# Altium footprint library LTM4613.PcbLib: 18 footprints (part 1 of 2)
Each footprint in its own frame and in the unit in brackets; x right, y up, seen from the top. Pads: shape width x height; smd on the part's side, far side on the other; paste and mask are expansions set on the pad; w line width, h text height; cw(c..) or ccw(c..) is an arc to the next point about the centre after c.
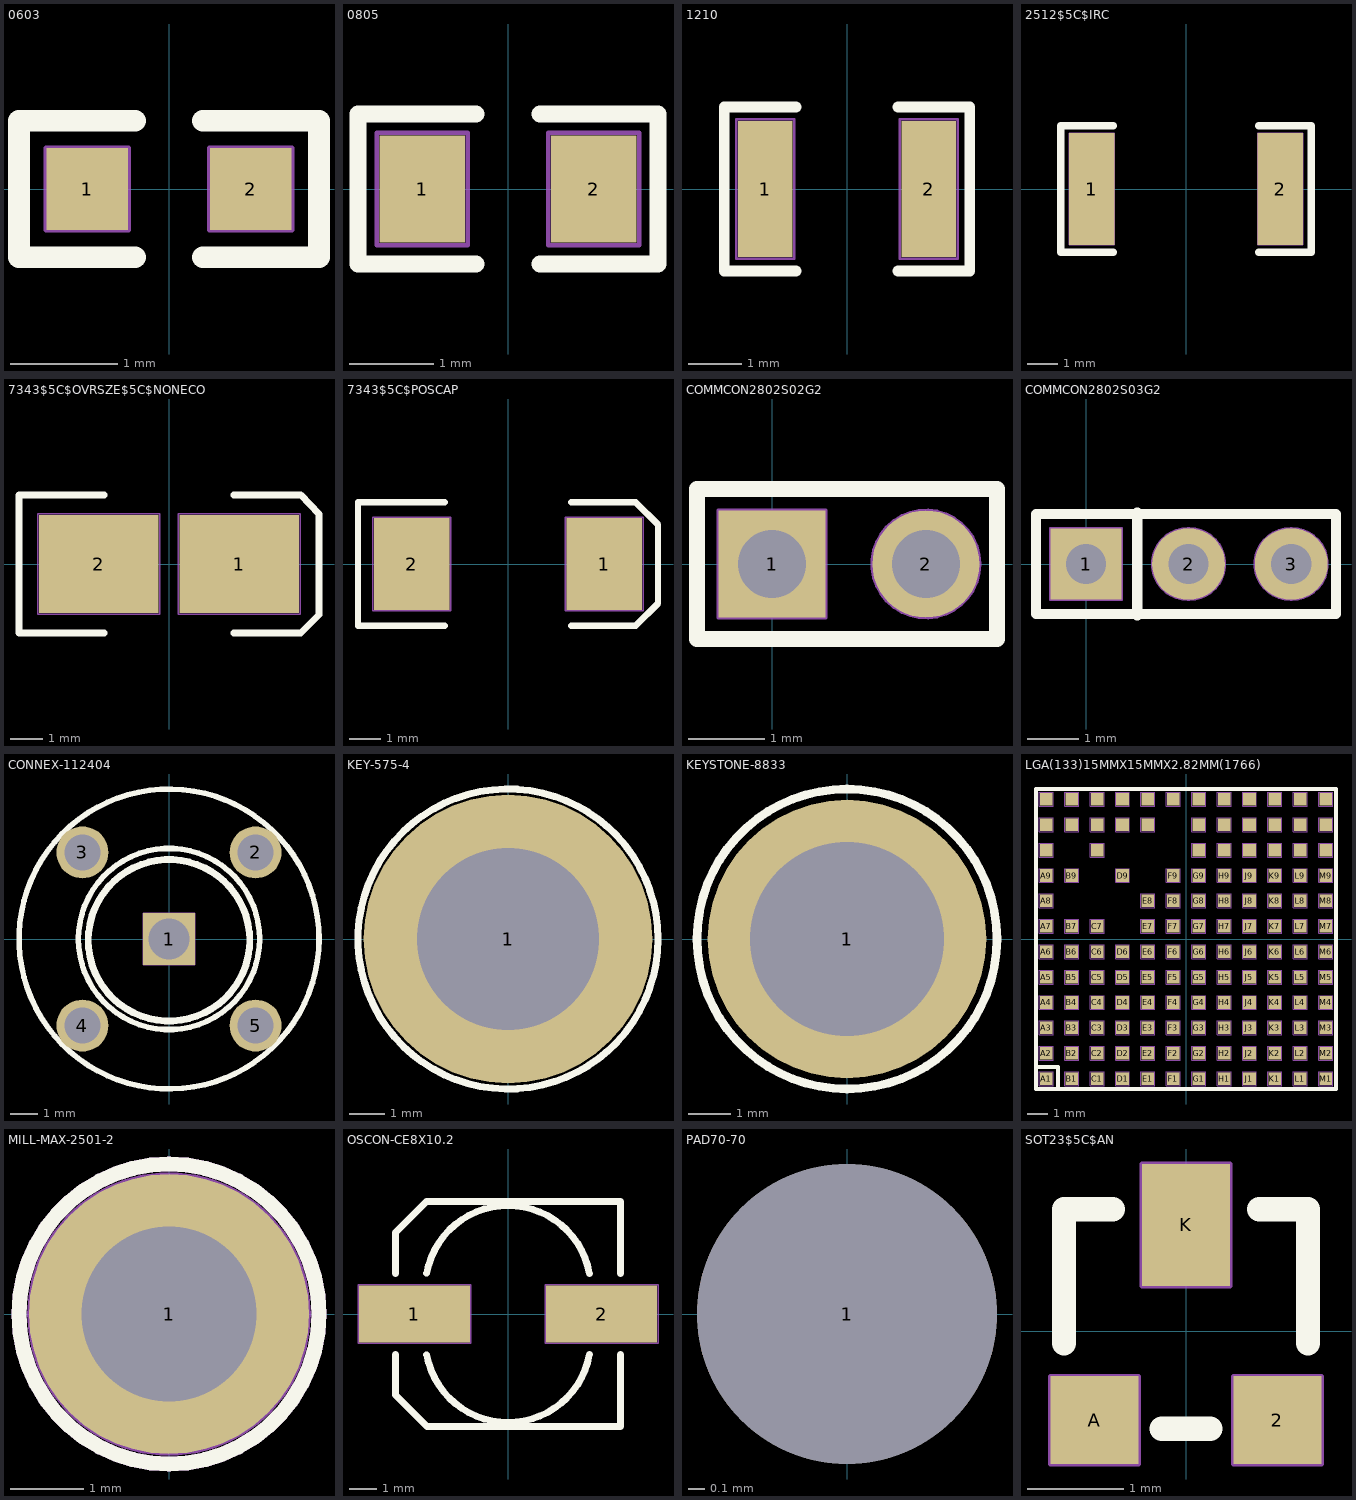
[diagram p0: the footprints below, top view; thin cyan lines are the x and y axes]

## 0603 [mil]
pads (2):
  rect 30x30 smd: 1(-30,0) 2(30,0)
Top Overlay:
  lines w8: -12.5,-25 -55,-25 -55,25 -12.5,25 ; 12.5,-25 55,-25 55,25 12.5,25
Mechanical 1:
  lines w1.97: -45,-15 -45,15 -15,15 -15,-15 -45,-15 ; 15,-15 15,15 45,15 45,-15 15,-15
Mechanical 16:
  lines w1.97: -45,-15 -45,15 -15,15 -15,-15 -45,-15 ; 15,-15 15,15 45,15 45,-15 15,-15

## 0805 [mil]
pads (2):
  rect 40x50 smd: 1(-40,0) 2(40,0)
Top Overlay:
  lines w8: -15,-35 -70,-35 -70,35 -15,35 ; 15,-35 70,-35 70,35 15,35
Mechanical 1:
  lines w1.97: -61.25,-26.25 -61.25,26.25 -18.75,26.25 -18.75,-26.25 -61.25,-26.25 ; 18.75,-26.25 18.75,26.25 61.25,26.25 61.25,-26.25 18.75,-26.25
Mechanical 16:
  lines w1.97: -61.25,-26.25 -61.25,26.25 -18.75,26.25 -18.75,-26.25 -61.25,-26.25 ; 18.75,-26.25 18.75,26.25 61.25,26.25 61.25,-26.25 18.75,-26.25
Mechanical 22:
  text "CIN6" at -92.82,50.54 h50
Mechanical 23:
  text "CIN6" at -51.52,-13.45 h27.5

## 1210 [mil]
pads (2):
  rect 40x100 smd: 1(-60,0) 2(60,0)
Top Overlay:
  lines w8: -37.5,-60 -90,-60 -90,60 -37.5,60 ; 37.5,-60 90,-60 90,60 37.5,60
Mechanical 1:
  lines w1.97: -81.25,-51.25 -81.25,51.25 -38.75,51.25 -38.75,-51.25 -81.25,-51.25 ; 38.75,-51.25 38.75,51.25 81.25,51.25 81.25,-51.25 38.75,-51.25
Mechanical 16:
  lines w1.97: -81.25,-51.25 -81.25,51.25 -38.75,51.25 -38.75,-51.25 -81.25,-51.25 ; 38.75,-51.25 38.75,51.25 81.25,51.25 81.25,-51.25 38.75,-51.25

## 2512$5C$IRC [mm]
pads (2):
  rect 1.5x3.7 smd: 1(-3.125,0) 2(3.125,0)
Top Overlay:
  lines w0.254: -2.413,-2.095 -4.15,-2.095 -4.15,2.095 -2.413,2.095 ; 2.413,-2.095 4.15,-2.095 4.15,2.095 2.413,2.095
Mechanical 1:
  lines w0.05: -3.875,-1.85 -3.875,1.85 -2.375,1.85 -2.375,-1.85 -3.875,-1.85 ; 2.375,-1.85 2.375,1.85 3.875,1.85 3.875,-1.85 2.375,-1.85
Mechanical 16:
  lines w0.05: -3.875,-1.85 -3.875,1.85 -2.375,1.85 -2.375,-1.85 -3.875,-1.85 ; 2.375,-1.85 2.375,1.85 3.875,1.85 3.875,-1.85 2.375,-1.85

## 7343$5C$OVRSZE$5C$NONECO [mil]
pads (2):
  rect 145x119 smd: 1(85,0) 2(-85,0)
Top Overlay:
  lines w8: -78.5,-83.5 -181.5,-83.5 -181.5,83.5 -78.5,83.5 ; 78.5,-83.5 159.5,-83.5 181.5,-61.5 181.5,60.5 159.5,83.5 78.5,83.5
Mechanical 1:
  lines w1.97: -158.75,-60.75 -11.25,-60.75 -11.25,60.75 -158.75,60.75 -158.75,-60.75 ; 11.25,-60.75 158.75,-60.75 158.75,60.75 11.25,60.75 11.25,-60.75
Mechanical 16:
  lines w1.97: -158.75,-60.75 -11.25,-60.75 -11.25,60.75 -158.75,60.75 -158.75,-60.75 ; 11.25,-60.75 158.75,-60.75 158.75,60.75 11.25,60.75 11.25,-60.75

## 7343$5C$POSCAP [mm]
pads (2):
  rect 2.4x2.9 smd: 1(3.05,0) 2(-3.05,0)
Top Overlay:
  lines w0.203: -2,-1.95 -4.75,-1.95 -4.75,1.95 -2,1.95 ; 2,-1.95 4.05,-1.95 4.75,-1.25 4.75,1.25 4.05,1.95 2,1.95
Mechanical 1:
  lines w0.05: -4.28,-1.48 -4.28,1.48 -1.82,1.48 -1.82,-1.48 -4.28,-1.48 ; 1.82,-1.48 1.82,1.48 4.28,1.48 4.28,-1.48 1.82,-1.48
Mechanical 16:
  lines w0.05: -4.28,-1.48 -4.28,1.48 -1.82,1.48 -1.82,-1.48 -4.28,-1.48 ; 1.82,-1.48 1.82,1.48 4.28,1.48 4.28,-1.48 1.82,-1.48

## COMMCON2802S02G2 [mil]
pads (2):
  rect 55x55 / inner round 55 / far side rect 55x55 hole 35: 1(0,0)
  round 55 hole 35: 2(79,0)
Top Overlay:
  lines w8: -38.5,-38.5 115.5,-38.5 115.5,38.5 -38.5,38.5 -38.5,-38.5
Mechanical 16:
  circle w1.97: c79,0 r27.5
  lines w1.97: -27.5,-27.5 27.5,-27.5 27.5,27.5 -27.5,27.5 -27.5,-27.5

## COMMCON2802S03G2 [mil]
pads (3):
  rect 55x55 / inner round 55 / far side rect 55x55 hole 31: 1(0,0)
  oval 56x55 hole 31: 2(79,0) 3(158,0)
Top Overlay:
  lines w8: 39.5,-39.5 39.5,39.5 ; -38.5,-38.5 192.5,-38.5 192.5,38.5 -38.5,38.5 -38.5,-38.5
Mechanical 16:
  lines w1.97: -27.5,-27.5 27.5,-27.5 27.5,27.5 -27.5,27.5 -27.5,-27.5 ; 78.5,-27.5 cw(c78.5,0) 78.5,27.5 79.5,27.5 cw(c79.5,0) 79.5,-27.5 78.5,-27.5 ; 157.5,-27.5 cw(c157.5,0) 157.5,27.5 158.5,27.5 cw(c158.5,0) 158.5,-27.5 157.5,-27.5

## CONNEX-112404 [mil]
pads (5):
  rect 75x75 / inner round 75 / far side rect 75x75 hole 59: 1(0,0)
  round 75 hole 52: 2(125,125) 3(-125,125) 4(-125,-125) 5(125,-125)
Top Overlay:
  circle w10: c0,-1.85 r116.51
  circle w8: c0,0 r216.5
  circle w8: c0,0 r130.78
Mechanical 16:
  circle w1.97: c-125,125 r32.5
  circle w1.97: c-125,-125 r32.5
  circle w1.97: c125,-125 r32.5
  circle w1.97: c125,125 r32.5
  circle w1.97: c-125,125 r27.5
  circle w1.97: c-125,-125 r27.5
  circle w1.97: c125,-125 r27.5
  circle w1.97: c125,125 r27.5
  lines w1.97: -37.5,-37.5 37.5,-37.5 ; -37.5,-37.5 -37.5,37.5 ; -37.5,-37.5 37.5,-37.5 ; -37.5,-37.5 -37.5,37.5 ; -37.5,37.5 37.5,37.5 ; -37.5,37.5 37.5,37.5 ; 37.5,-37.5 37.5,37.5 ; 37.5,-37.5 37.5,37.5

## KEY-575-4 [mil]
pads (1):
  round 325 hole 205: 1(0,0)
Top Overlay:
  circle w8: c0,0 r168.87
Mechanical 1:
  circle w1.97: c0,0 r142.5
Mechanical 16:
  circle w1.97: c0,0 r142.5

## KEYSTONE-8833 [mil]
pads (1):
  round 260 hole 181: 1(0,0)
Top Overlay:
  circle w8: c0,0 r140

## LGA(133)15MMX15MMX2.82MM(1766) [mm]
pads (133):
  rect 0.63x0.63 smd: A1(-6.985,-6.985) A2(-6.985,-5.715) A3(-6.985,-4.445) A4(-6.985,-3.175) A5(-6.985,-1.905) A6(-6.985,-0.635) A7(-6.985,0.635) A8(-6.985,1.905) A9(-6.985,3.175) A10(-6.985,4.445) A11(-6.985,5.715) A12(-6.985,6.985) B1(-5.715,-6.985) B2(-5.715,-5.715) B3(-5.715,-4.445) B4(-5.715,-3.175) B5(-5.715,-1.905) B6(-5.715,-0.635) B7(-5.715,0.635) B9(-5.715,3.175) B11(-5.715,5.715) B12(-5.715,6.985) C1(-4.445,-6.985) C2(-4.445,-5.715) C3(-4.445,-4.445) C4(-4.445,-3.175) C5(-4.445,-1.905) C6(-4.445,-0.635) C7(-4.445,0.635) C10(-4.445,4.445) C11(-4.445,5.715) C12(-4.445,6.985) D1(-3.175,-6.985) D2(-3.175,-5.715) D3(-3.175,-4.445) D4(-3.175,-3.175) D5(-3.175,-1.905) D6(-3.175,-0.635) D9(-3.175,3.175) D11(-3.175,5.715) D12(-3.175,6.985) E1(-1.905,-6.985) E2(-1.905,-5.715) E3(-1.905,-4.445) E4(-1.905,-3.175) E5(-1.905,-1.905) E6(-1.905,-0.635) E7(-1.905,0.635) E8(-1.905,1.905) E11(-1.905,5.715) E12(-1.905,6.985) F1(-0.635,-6.985) F2(-0.635,-5.715) F3(-0.635,-4.445) F4(-0.635,-3.175) F5(-0.635,-1.905) F6(-0.635,-0.635) F7(-0.635,0.635) F8(-0.635,1.905) F9(-0.635,3.175) F12(-0.635,6.985) G1(0.635,-6.985) G2(0.635,-5.715) G3(0.635,-4.445) G4(0.635,-3.175) G5(0.635,-1.905) G6(0.635,-0.635) G7(0.635,0.635) G8(0.635,1.905) G9(0.635,3.175) G10(0.635,4.445) G11(0.635,5.715) G12(0.635,6.985) H1(1.905,-6.985) H2(1.905,-5.715) H3(1.905,-4.445) H4(1.905,-3.175) H5(1.905,-1.905) H6(1.905,-0.635) H7(1.905,0.635) H8(1.905,1.905) H9(1.905,3.175) H10(1.905,4.445) H11(1.905,5.715) H12(1.905,6.985) J1(3.175,-6.985) J2(3.175,-5.715) J3(3.175,-4.445) J4(3.175,-3.175) J5(3.175,-1.905) J6(3.175,-0.635) J7(3.175,0.635) J8(3.175,1.905) J9(3.175,3.175) J10(3.175,4.445) J11(3.175,5.715) J12(3.175,6.985) K1(4.445,-6.985) K2(4.445,-5.715) K3(4.445,-4.445) K4(4.445,-3.175) K5(4.445,-1.905) K6(4.445,-0.635) K7(4.445,0.635) K8(4.445,1.905) K9(4.445,3.175) K10(4.445,4.445) K11(4.445,5.715) K12(4.445,6.985) L1(5.715,-6.985) L2(5.715,-5.715) L3(5.715,-4.445) L4(5.715,-3.175) L5(5.715,-1.905) L6(5.715,-0.635) L7(5.715,0.635) L8(5.715,1.905) L9(5.715,3.175) L10(5.715,4.445) L11(5.715,5.715) L12(5.715,6.985) M1(6.985,-6.985) M2(6.985,-5.715) M3(6.985,-4.445) M4(6.985,-3.175) M5(6.985,-1.905) M6(6.985,-0.635) M7(6.985,0.635) M8(6.985,1.905) M9(6.985,3.175) M10(6.985,4.445) M11(6.985,5.715) M12(6.985,6.985)
Top Overlay:
  lines w0.2: -7.5,-7.5 7.5,-7.5 7.5,7.5 -7.5,7.5 -7.5,-7.5 ; -7.5,-7.5 -7.5,-6.4 -6.4,-6.4 -6.4,-7.5 -7.5,-7.5
Mechanical 1:
  drawing of 532 lines, arcs and shapes, not listed
Mechanical 16:
  drawing of 532 lines, arcs and shapes, not listed

## MILL-MAX-2501-2 [mil]
pads (1):
  round 150 hole 94: 1(0,0)
Top Overlay:
  circle w8: c0,0 r80.35
Mechanical 16:
  circle w1.97: c0,0 r75
  circle w1.97: c0,0 r50
  circle w8: c0,0 r80.35

## OSCON-CE8X10.2 [mm]
pads (2):
  rect 4.1x2.1 smd: 1(-3.45,0) 2(3.45,0)
Top Overlay:
  lines w0.254: -4.15,-1.5 -4.15,-2.986 -2.986,-4.15 4.15,-4.15 4.15,-1.5 ; -4.15,1.5 -4.15,3.004 -3.004,4.15 4.15,4.15 4.15,1.5 ; -3,-1.503 ccw(c0,-0.947) 3,-1.498 ; -3,1.503 cw(c0,0.947) 3,1.498
Mechanical 1:
  lines w0.05: -5.53,-1.08 -1.37,-1.08 -1.37,1.08 -5.53,1.08 -5.53,-1.08 ; 1.37,-1.08 5.53,-1.08 5.53,1.08 1.37,1.08 1.37,-1.08
Mechanical 16:
  lines w0.05: -5.53,-1.08 -1.37,-1.08 -1.37,1.08 -5.53,1.08 -5.53,-1.08 ; 1.37,-1.08 5.53,-1.08 5.53,1.08 1.37,1.08 1.37,-1.08

## PAD70-70 [mil]
pads (1):
  round 70 hole 70 unplated: 1(0,0)
Mechanical 16:
  circle w1.97: c0,0 r30

## SOT23$5C$AN [mil]
pads (3):
  rect 36x36 smd: 2(37.5,-36.5) A(-37.5,-36.5)
  rect 36x50 smd: K(0,43.5)
Top Overlay:
  lines w10: -50,-5 -50,50 -30,50 ; -10,-40 10,-40 ; 30,50 50,50 50,-5
Mechanical 1:
  lines w1.97: -55.5,-54.5 -19.5,-54.5 -19.5,-18.5 -55.5,-18.5 -55.5,-54.5 ; -18,18.5 -18,68.5 18,68.5 18,18.5 -18,18.5 ; 19.5,-54.5 55.5,-54.5 55.5,-18.5 19.5,-18.5 19.5,-54.5
Mechanical 16:
  lines w1.97: -55.5,-54.5 -19.5,-54.5 -19.5,-18.5 -55.5,-18.5 -55.5,-54.5 ; -18,18.5 -18,68.5 18,68.5 18,18.5 -18,18.5 ; 19.5,-54.5 55.5,-54.5 55.5,-18.5 19.5,-18.5 19.5,-54.5